# EAGLE library part USB3.0 (library components)
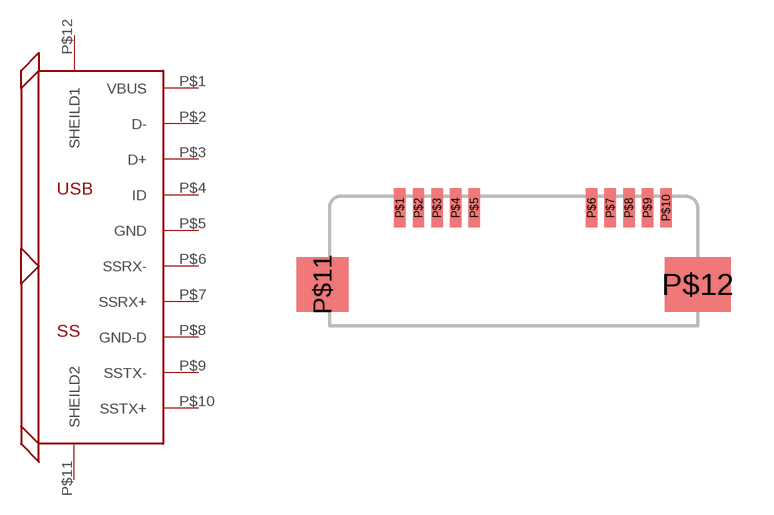
[diagram p2: symbol with the pads of USB-MICROB-3.0; footprint USB-MICROB-3.0]

Designator prefix -

## USB3.0  [USB-MICROB-3.0]
P$1  VBUS
P$2  D-
P$3  D+
P$4  ID
P$5  GND
P$6  SSRX-
P$7  SSRX+
P$8  GND-D
P$9  SSTX-
P$10  SSTX+
P$11  SHEILD2
P$12  SHEILD1

## Footprint USB-MICROB-3.0 (pad centres in mm)
smd 0.4 x 1.35: P$1 -1.3,0; P$2 -0.65,0; P$3 0,0; P$4 0.65,0; P$5 1.3,0; P$6 5.4,0; P$7 6.05,0; P$8 6.7,0; P$9 7.35,0; P$10 8,0
smd 1.8 x 1.9: P$11 -4,-2.675
smd 2.3 x 1.9: P$12 9.1,-2.675